# Altium integrated library Silicon Labs Isolation and Power.IntLib: 421 symbols (part 2 of 19)
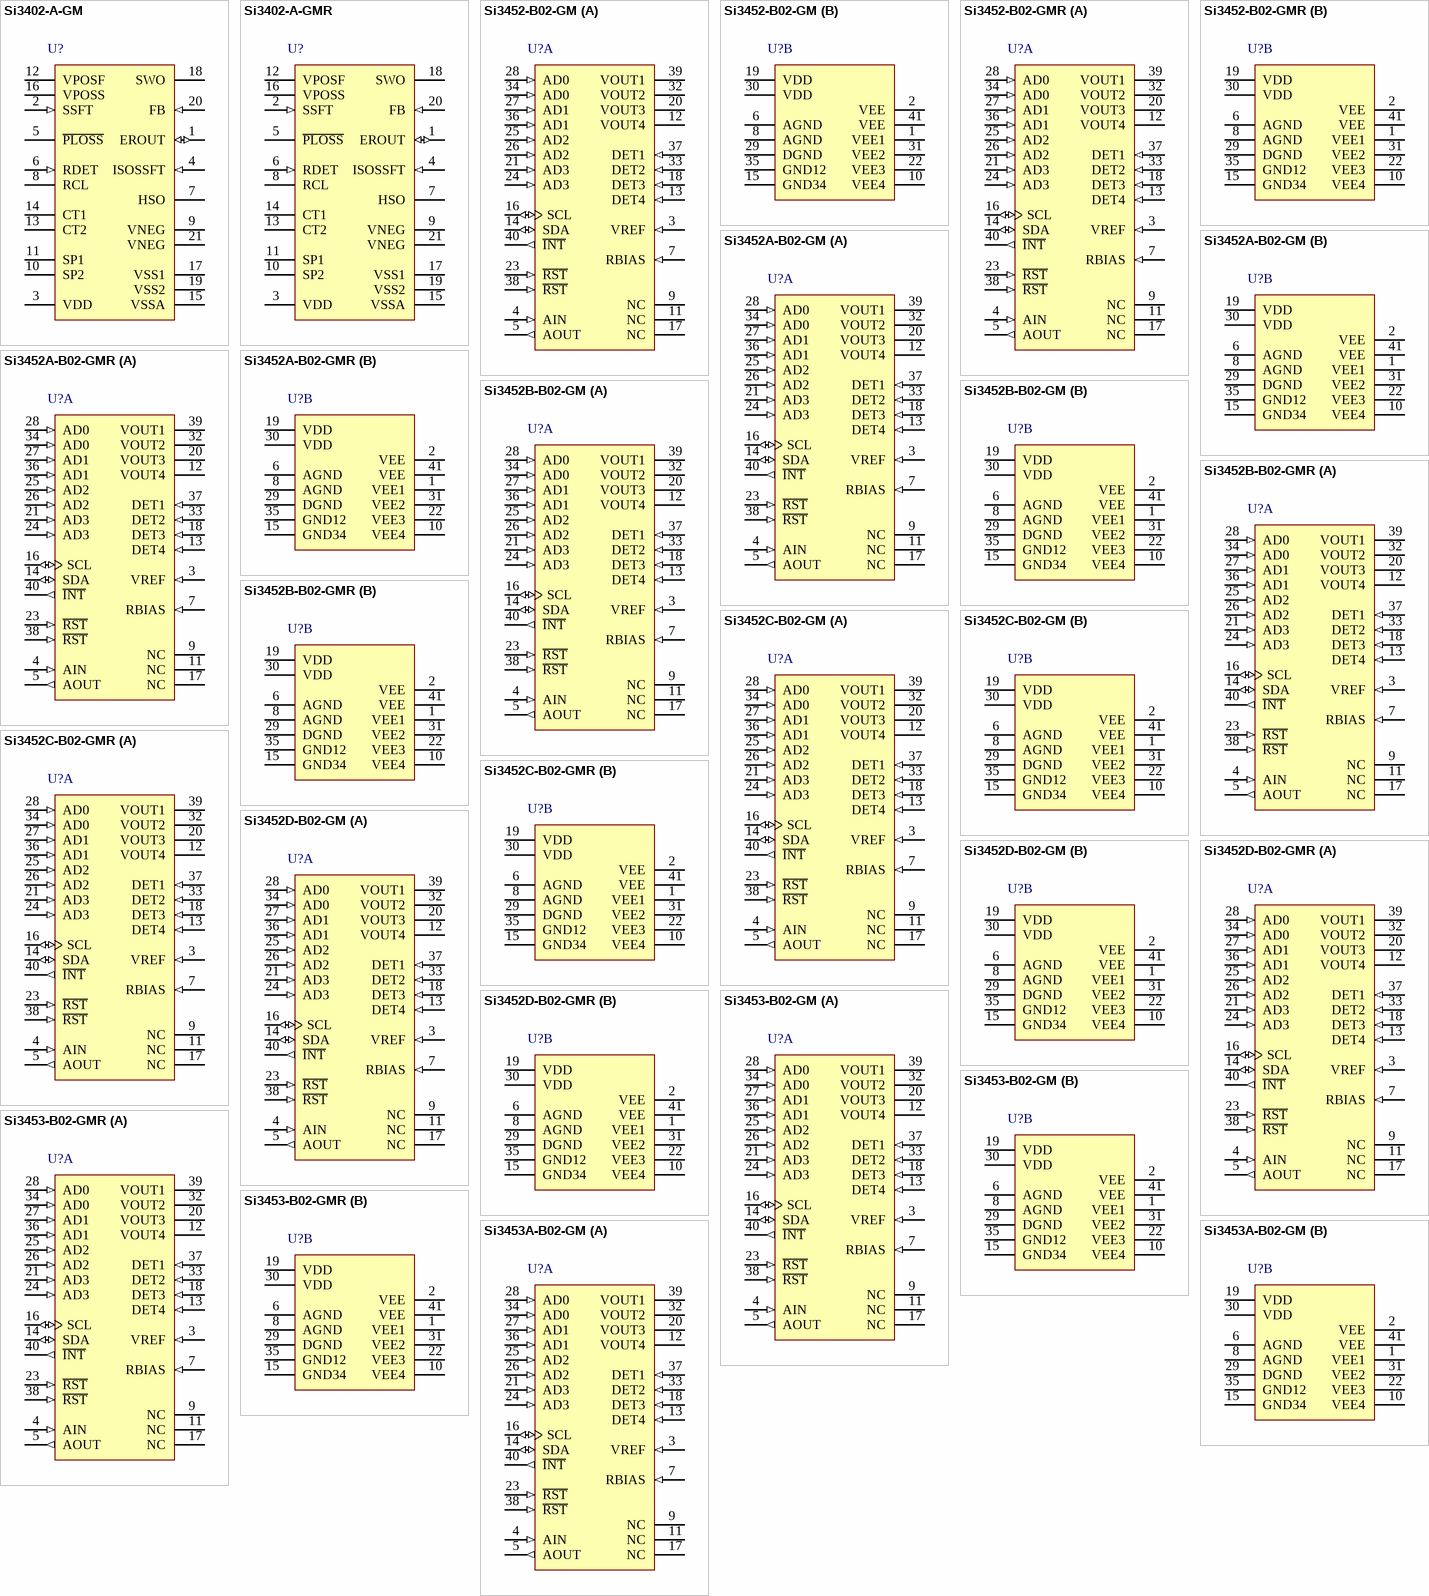
[diagram p15: symbols Si3402-A-GM to Si3453A-B02-GM]

## Si3452D-B02-GM
designator U?
Quad High-Voltage Port Controller for PoE and PoE+ PSEs, 40 W Maximum Output Power, -40 to 85 degC, 40-pin QFN; Manufacturer: Silicon Labs; PartNumber: Si3452D-B02-GM; Maximum Output Power: 40 W; Sub-Family: Power Over Ethernet Controllers; DatasheetVersion: Rev. 1.3; PackageVersion: Rev. 1.3, 01/2012; PackageReference: QFN-40; PackageDescription: 40-Pin Quad-Flat No-Leads Package, Body 6 x 6 mm, Pitch 0.5 mm; Supplier 1: Digi-Key; Supplier Part Number 1: SI3452D-B02-GM-ND; Supplier 2: Mouser; Supplier Part Number 2: 634-SI3452D-B02-GM; Mounting Technology: Surface Mount; Code_JEDEC: MO-220; Code_IPC: J-STD-020; ComponentLink1Description: Manufacturer URL; ComponentLink1URL: http://www.silabs.com/; ComponentLink2Description: Datasheet; ComponentLink2URL: http://www.silabs.com/Support Documents/TechnicalDocs/Si3452.pdf; ComponentLink3Description: Package Specification; ComponentLink3URL: http://www.silabs.com/Support%20Documents/TechnicalDocs/Si3452.pdf
footprint SLAB-QFN-40-4100x4100TP_A_N (QFN, 40-Leads, Body 6x6mm, Pitch 0.5mm, Thermal Pad 4.1X4.1mm, IPC Medium Density)
footprint SLAB-QFN-40-4100x4100TP_A_L (QFN, 40-Leads, Body 6x6mm, Pitch 0.5mm, Thermal Pad 4.1X4.1mm, IPC High Density)
footprint SLAB-QFN-40-4100x4100TP_A_M (QFN, 40-Leads, Body 6x6mm, Pitch 0.5mm, Thermal Pad 4.1X4.1mm, IPC Low Density)
part A pins: 3 VREF (in) "1.1 V nom. voltage reference from reference generator (for example, TLV431 or power management unit).", 4 AIN (in) "Measurement data converter input. Short to AOUT.", 5 AOUT (out) "Measurement multiplexer subsystem output. Short to AIN.", 7 RBIAS (in) "External 44.2 kohm (+/-1%) resistor to ground sets internal bias currents.", 9 NC "Do not connect (float).", 11 NC "Do not connect (float).", 12 VOUT4 (power) "Port 4 power FET switch output. When on, provides a low impedance path to VEE4.", 13 DET4 (in) "Connection for port 4 detection, classification, and transient surge protection. This pin is tied to VOUT4.", 14 SDA (io) "I2C data pin", 16 SCL (io) "I2C clock pin", 17 NC "Do not connect (float).", 18 DET3 (in) "Connection for port 3 detection and classification. See DET4 for detailed description.", 20 VOUT3 (power) "Port 3 power FET switch output. When on, provides a low impedance path to VEE3.", 21 AD3 (in) "Chip address bit 3 pin, read after reset. Address set with defined resistor dividers. Pin also used for internal communications. Short to AD3 pin 24.", 23 ~{RST} (in) "Active low digital reset. Short to R\S\T\ pin 38.", 24 AD3 (in) "Chip address bit 3 pin, read after reset. Address set with a 10 kohm pull-up or pull-down resistor. Also used for internal communications. Short to AD3 pin 21.", 25 AD2 (in) "Chip address bit 2 pin, read after reset. Address set with a 10 kohm pull-up or pull-down resistor. Also used for internal communications. Short to AD2 pin 26.", 26 AD2 (in) "Chip address bit 2 pin, read after reset. Address set with a 10 kohm pull-up or pull-down resistor. Also used for internal communications. Short to AD2 pin 25.", 27 AD1 (in) "Chip address bit 1 pin, read after reset. Address set with a 10 kohm pull-up or pull-down resistor. Also used for internal communications. Short to AD1 pin 36.", 28 AD0 (in) "Chip address bit 0 pin, read after reset. Address set with a 10 kohm pull-up or pull-down resistor. Also used for internal communications. Short to AD0 pin 34.", 32 VOUT2 (power) "Port 2 power FET switch output. When on, provides a low impedance path to VEE2.", 33 DET2 (in) "Connection for port 2 detection and classification. See DET4 for detailed description.", 34 AD0 (in) "Chip address bit 0 pin. See description for- and short to AD0 pin 28.", 36 AD1 (in) "Chip address bit 1 pin. See description for- and short to AD1 pin 27.", 37 DET1 (in) "Connection for port 1 detection and classification. See DET4 for detailed description.", 38 ~{RST} (in) "Active low digital reset. Short to R\S\T\ pin 23.", 39 VOUT1 (power) "Port 1 power FET switch output. When on, provides a low impedance path to VEE1.", 40 ~{INT} (out) "Active low interrupt output pin."
part B pins: 1 VEE1 (power) "Driver 1 VEE supply. Short to VEE, VEE2/3/4.", 2 VEE (power) "Global PoE (-48 V nom.) or PoE+ (-54 V nom.) supply. Short to VEE1/2/3/4.", 6 AGND (power) "Analog ground reference. Short to AGND pin 8, GND12/34, DGND.", 8 AGND (power) "Analog ground reference. Short to AGND pin 6, GND12/34, DGND.", 10 VEE4 (power) "Driver 4 VEE supply. Short to VEE, VEE1/2/3.", 15 GND34 (power) "Ground supply for protection clamps. Short to AGND, GND12, DGND.", 19 VDD (power) "+3.3 V (+/-10%) isolated supply. Short to VDD pin 30.", 22 VEE3 (power) "Driver 3 VEE supply. Short to VEE, VEE1/2/4.", 29 DGND (power) "Digital ground reference. Short to AGND, GND12/34", 30 VDD (power) "+3.3 V isolated supply. Short to VDD pin 19.", 31 VEE2 (power) "Driver 2 VEE supply. Short to VEE, VEE1/3/4.", 35 GND12 (power) "Ground supply for protection clamps. Short to AGND, GND34, DGND.", 41 VEE (power) "Connect the thermal pad to a plane which connects to Vee. For best results, use a 5 x 5 or larger via array for best thermal conductivity with 1 square inch or larger of plane area per device."

## Si3452D-B02-GMR
designator U?
Quad High-Voltage Port Controller for PoE and PoE+ PSEs, 40 W Maximum Output Power, -40 to 85 degC, 40-pin QFN, Tape and Reel; Manufacturer: Silicon Labs; PartNumber: Si3452D-B02-GMR; Maximum Output Power: 40 W; Sub-Family: Power Over Ethernet Controllers; DatasheetVersion: Rev. 1.3; PackageReference: QFN-40; PackageDescription: 40-Pin Quad-Flat No-Leads Package, Body 6 x 6 mm, Pitch 0.5 mm; Supplier 1: Digi-Key; Supplier Part Number 1: SI3452D-B02-GMR-ND; Supplier 2: Mouser; Supplier Part Number 2: 634-SI3452D-B02-GMR; Packing: Tape and Reel; Mounting Technology: Surface Mount; Code_JEDEC: MO-220; Code_IPC: J-STD-020; ComponentLink1Description: Manufacturer URL; ComponentLink1URL: http://www.silabs.com/; ComponentLink2Description: Datasheet; ComponentLink2URL: http://www.silabs.com/Support Documents/TechnicalDocs/Si3452.pdf; ComponentLink3Description: Package Specification; ComponentLink3URL: http://www.silabs.com/Support Documents/TechnicalDocs/C8051F50x-51x.pdf
footprint SLAB-QFN-40-4100x4100TP_N (QFN, 40-Leads, Body 6x6mm, Pitch 0.5mm, Thermal Pad 4.1x4.1mm, IPC Medium Density)
footprint SLAB-QFN-40-4100x4100TP_L (QFN, 40-Leads, Body 6x6mm, Pitch 0.5mm, Thermal Pad 4.1x4.1mm, IPC High Density)
footprint SLAB-QFN-40-4100x4100TP_M (QFN, 40-Leads, Body 6x6mm, Pitch 0.5mm, Thermal Pad 4.1x4.1mm, IPC Low Density)
part A pins: 3 VREF (in) "1.1 V nom. voltage reference from reference generator (for example, TLV431 or power management unit).", 4 AIN (in) "Measurement data converter input. Short to AOUT.", 5 AOUT (out) "Measurement multiplexer subsystem output. Short to AIN.", 7 RBIAS (in) "External 44.2 kohm (+/-1%) resistor to ground sets internal bias currents.", 9 NC "Do not connect (float).", 11 NC "Do not connect (float).", 12 VOUT4 (power) "Port 4 power FET switch output. When on, provides a low impedance path to VEE4.", 13 DET4 (in) "Connection for port 4 detection, classification, and transient surge protection. This pin is tied to VOUT4.", 14 SDA (io) "I2C data pin", 16 SCL (io) "I2C clock pin", 17 NC "Do not connect (float).", 18 DET3 (in) "Connection for port 3 detection and classification. See DET4 for detailed description.", 20 VOUT3 (power) "Port 3 power FET switch output. When on, provides a low impedance path to VEE3.", 21 AD3 (in) "Chip address bit 3 pin, read after reset. Address set with defined resistor dividers. Pin also used for internal communications. Short to AD3 pin 24.", 23 ~{RST} (in) "Active low digital reset. Short to R\S\T\ pin 38.", 24 AD3 (in) "Chip address bit 3 pin, read after reset. Address set with a 10 kohm pull-up or pull-down resistor. Also used for internal communications. Short to AD3 pin 21.", 25 AD2 (in) "Chip address bit 2 pin, read after reset. Address set with a 10 kohm pull-up or pull-down resistor. Also used for internal communications. Short to AD2 pin 26.", 26 AD2 (in) "Chip address bit 2 pin, read after reset. Address set with a 10 kohm pull-up or pull-down resistor. Also used for internal communications. Short to AD2 pin 25.", 27 AD1 (in) "Chip address bit 1 pin, read after reset. Address set with a 10 kohm pull-up or pull-down resistor. Also used for internal communications. Short to AD1 pin 36.", 28 AD0 (in) "Chip address bit 0 pin, read after reset. Address set with a 10 kohm pull-up or pull-down resistor. Also used for internal communications. Short to AD0 pin 34.", 32 VOUT2 (power) "Port 2 power FET switch output. When on, provides a low impedance path to VEE2.", 33 DET2 (in) "Connection for port 2 detection and classification. See DET4 for detailed description.", 34 AD0 (in) "Chip address bit 0 pin. See description for- and short to AD0 pin 28.", 36 AD1 (in) "Chip address bit 1 pin. See description for- and short to AD1 pin 27.", 37 DET1 (in) "Connection for port 1 detection and classification. See DET4 for detailed description.", 38 ~{RST} (in) "Active low digital reset. Short to R\S\T\ pin 23.", 39 VOUT1 (power) "Port 1 power FET switch output. When on, provides a low impedance path to VEE1.", 40 ~{INT} (out) "Active low interrupt output pin."
part B pins: 1 VEE1 (power) "Driver 1 VEE supply. Short to VEE, VEE2/3/4.", 2 VEE (power) "Global PoE (-48 V nom.) or PoE+ (-54 V nom.) supply. Short to VEE1/2/3/4.", 6 AGND (power) "Analog ground reference. Short to AGND pin 8, GND12/34, DGND.", 8 AGND (power) "Analog ground reference. Short to AGND pin 6, GND12/34, DGND.", 10 VEE4 (power) "Driver 4 VEE supply. Short to VEE, VEE1/2/3.", 15 GND34 (power) "Ground supply for protection clamps. Short to AGND, GND12, DGND.", 19 VDD (power) "+3.3 V (+/-10%) isolated supply. Short to VDD pin 30.", 22 VEE3 (power) "Driver 3 VEE supply. Short to VEE, VEE1/2/4.", 29 DGND (power) "Digital ground reference. Short to AGND, GND12/34", 30 VDD (power) "+3.3 V isolated supply. Short to VDD pin 19.", 31 VEE2 (power) "Driver 2 VEE supply. Short to VEE, VEE1/3/4.", 35 GND12 (power) "Ground supply for protection clamps. Short to AGND, GND34, DGND.", 41 VEE (power) "Connect the thermal pad to a plane which connects to Vee. For best results, use a 5 x 5 or larger via array for best thermal conductivity with 1 square inch or larger of plane area per device."

## Si3453-B02-GM
designator U?
Quad High-Voltage Port Controller for PoE and PoE+ PSEs, 40 W Maximum Output Power, -40 to 85 degC, 40-pin QFN; Manufacturer: Silicon Labs; PartNumber: Si3453-B02-GM; Maximum Output Power: 40 W; Sub-Family: Power Over Ethernet Controllers; DatasheetVersion: Rev. 1.3; PackageVersion: Rev. 1.3, 01/2012; PackageReference: QFN-40; PackageDescription: 40-Pin Quad-Flat No-Leads Package, Body 6 x 6 mm, Pitch 0.5 mm; Supplier 1: Digi-Key; Supplier Part Number 1: SI3453-B02-GM-ND; Supplier 2: Mouser; Supplier Part Number 2: 634-SI3453-B02-GM; Mounting Technology: Surface Mount; Code_JEDEC: MO-220; Code_IPC: J-STD-020; ComponentLink1Description: Manufacturer URL; ComponentLink1URL: http://www.silabs.com/; ComponentLink2Description: Datasheet; ComponentLink2URL: http://www.silabs.com/Support Documents/TechnicalDocs/Si3453.pdf; ComponentLink3Description: Package Specification; ComponentLink3URL: http://www.silabs.com/Support%20Documents/TechnicalDocs/Si3452.pdf
footprint SLAB-QFN-40-4100x4100TP_A_N (QFN, 40-Leads, Body 6x6mm, Pitch 0.5mm, Thermal Pad 4.1X4.1mm, IPC Medium Density)
footprint SLAB-QFN-40-4100x4100TP_A_L (QFN, 40-Leads, Body 6x6mm, Pitch 0.5mm, Thermal Pad 4.1X4.1mm, IPC High Density)
footprint SLAB-QFN-40-4100x4100TP_A_M (QFN, 40-Leads, Body 6x6mm, Pitch 0.5mm, Thermal Pad 4.1X4.1mm, IPC Low Density)
part A pins: 3 VREF (in) "1.1 V nom. voltage reference from reference generator (for example, TLV431 or power management unit).", 4 AIN (in) "Measurement data converter input. Short to AOUT.", 5 AOUT (out) "Measurement multiplexer subsystem output. Short to AIN.", 7 RBIAS (in) "External 44.2 kohm (+/-1%) resistor to ground sets internal bias currents.", 9 NC "Do not connect (float).", 11 NC "Do not connect (float).", 12 VOUT4 (power) "Port 4 power FET switch output. When on, provides a low impedance path to VEE4.", 13 DET4 (in) "Connection for port 4 detection, classification, and transient surge protection. This pin is tied to VOUT4.", 14 SDA (io) "I2C data pin", 16 SCL (io) "I2C clock pin", 17 NC "Do not connect (float).", 18 DET3 (in) "Connection for port 3 detection and classification. See DET4 for detailed description.", 20 VOUT3 (power) "Port 3 power FET switch output. When on, provides a low impedance path to VEE3.", 21 AD3 (in) "Chip address bit 3 pin, read after reset. Address set with defined resistor dividers. Pin also used for internal communications. Short to AD3 pin 24.", 23 ~{RST} (in) "Active low digital reset. Short to R\S\T\ pin 38.", 24 AD3 (in) "Chip address bit 3 pin, read after reset. Address set with a 10 kohm pull-up or pull-down resistor. Also used for internal communications. Short to AD3 pin 21.", 25 AD2 (in) "Chip address bit 2 pin, read after reset. Address set with a 10 kohm pull-up or pull-down resistor. Also used for internal communications. Short to AD2 pin 26.", 26 AD2 (in) "Chip address bit 2 pin, read after reset. Address set with a 10 kohm pull-up or pull-down resistor. Also used for internal communications. Short to AD2 pin 25.", 27 AD1 (in) "Chip address bit 1 pin, read after reset. Address set with a 10 kohm pull-up or pull-down resistor. Also used for internal communications. Short to AD1 pin 36.", 28 AD0 (in) "Chip address bit 0 pin, read after reset. Address set with a 10 kohm pull-up or pull-down resistor. Also used for internal communications. Short to AD0 pin 34.", 32 VOUT2 (power) "Port 2 power FET switch output. When on, provides a low impedance path to VEE2.", 33 DET2 (in) "Connection for port 2 detection and classification. See DET4 for detailed description.", 34 AD0 (in) "Chip address bit 0 pin. See description for- and short to AD0 pin 28.", 36 AD1 (in) "Chip address bit 1 pin. See description for- and short to AD1 pin 27.", 37 DET1 (in) "Connection for port 1 detection and classification. See DET4 for detailed description.", 38 ~{RST} (in) "Active low digital reset. Short to R\S\T\ pin 23.", 39 VOUT1 (power) "Port 1 power FET switch output. When on, provides a low impedance path to VEE1.", 40 ~{INT} (out) "Active low interrupt output pin."
part B pins: 1 VEE1 (power) "Driver 1 VEE supply. Short to VEE, VEE2/3/4.", 2 VEE (power) "Global PoE (-48 V nom.) or PoE+ (-54 V nom.) supply. Short to VEE1/2/3/4.", 6 AGND (power) "Analog ground reference. Short to AGND pin 8, GND12/34, DGND.", 8 AGND (power) "Analog ground reference. Short to AGND pin 6, GND12/34, DGND.", 10 VEE4 (power) "Driver 4 VEE supply. Short to VEE, VEE1/2/3.", 15 GND34 (power) "Ground supply for protection clamps. Short to AGND, GND12, DGND.", 19 VDD (power) "+3.3 V (+/-10%) isolated supply. Short to VDD pin 30.", 22 VEE3 (power) "Driver 3 VEE supply. Short to VEE, VEE1/2/4.", 29 DGND (power) "Digital ground reference. Short to AGND, GND12/34", 30 VDD (power) "+3.3 V isolated supply. Short to VDD pin 19.", 31 VEE2 (power) "Driver 2 VEE supply. Short to VEE, VEE1/3/4.", 35 GND12 (power) "Ground supply for protection clamps. Short to AGND, GND34, DGND.", 41 VEE (power) "Connect the thermal pad to a plane which connects to Vee. For best results, use a 5 x 5 or larger via array for best thermal conductivity with 1 square inch or larger of plane area per device."

## Si3453-B02-GMR
designator U?
Quad High-Voltage Port Controller for PoE and PoE+ PSEs, 40 W Maximum Output Power, -40 to 85 degC, 40-pin QFN, Tape and Reel; Manufacturer: Silicon Labs; PartNumber: Si3453-B02-GMR; Maximum Output Power: 40 W; Sub-Family: Power Over Ethernet Controllers; DatasheetVersion: Rev. 1.3; PackageVersion: Rev. 1.3, 01/2012; PackageReference: QFN-40; PackageDescription: 40-Pin Quad-Flat No-Leads Package, Body 6 x 6 mm, Pitch 0.5 mm; Supplier 1: Digi-Key; Supplier Part Number 1: SI3453-B02-GMR-ND; Supplier 2: Mouser; Supplier Part Number 2: 634-SI3453-B02-GMR; Packing: Tape and Reel; Mounting Technology: Surface Mount; Code_JEDEC: MO-220; Code_IPC: J-STD-020; ComponentLink1Description: Manufacturer URL; ComponentLink1URL: http://www.silabs.com/; ComponentLink2Description: Datasheet; ComponentLink2URL: http://www.silabs.com/Support Documents/TechnicalDocs/Si3453.pdf; ComponentLink3Description: Package Specification; ComponentLink3URL: http://www.silabs.com/Support%20Documents/TechnicalDocs/Si3452.pdf
footprint SLAB-QFN-40-4100x4100TP_A_N (QFN, 40-Leads, Body 6x6mm, Pitch 0.5mm, Thermal Pad 4.1X4.1mm, IPC Medium Density)
footprint SLAB-QFN-40-4100x4100TP_A_L (QFN, 40-Leads, Body 6x6mm, Pitch 0.5mm, Thermal Pad 4.1X4.1mm, IPC High Density)
footprint SLAB-QFN-40-4100x4100TP_A_M (QFN, 40-Leads, Body 6x6mm, Pitch 0.5mm, Thermal Pad 4.1X4.1mm, IPC Low Density)
part A pins: 3 VREF (in) "1.1 V nom. voltage reference from reference generator (for example, TLV431 or power management unit).", 4 AIN (in) "Measurement data converter input. Short to AOUT.", 5 AOUT (out) "Measurement multiplexer subsystem output. Short to AIN.", 7 RBIAS (in) "External 44.2 kohm (+/-1%) resistor to ground sets internal bias currents.", 9 NC "Do not connect (float).", 11 NC "Do not connect (float).", 12 VOUT4 (power) "Port 4 power FET switch output. When on, provides a low impedance path to VEE4.", 13 DET4 (in) "Connection for port 4 detection, classification, and transient surge protection. This pin is tied to VOUT4.", 14 SDA (io) "I2C data pin", 16 SCL (io) "I2C clock pin", 17 NC "Do not connect (float).", 18 DET3 (in) "Connection for port 3 detection and classification. See DET4 for detailed description.", 20 VOUT3 (power) "Port 3 power FET switch output. When on, provides a low impedance path to VEE3.", 21 AD3 (in) "Chip address bit 3 pin, read after reset. Address set with defined resistor dividers. Pin also used for internal communications. Short to AD3 pin 24.", 23 ~{RST} (in) "Active low digital reset. Short to R\S\T\ pin 38.", 24 AD3 (in) "Chip address bit 3 pin, read after reset. Address set with a 10 kohm pull-up or pull-down resistor. Also used for internal communications. Short to AD3 pin 21.", 25 AD2 (in) "Chip address bit 2 pin, read after reset. Address set with a 10 kohm pull-up or pull-down resistor. Also used for internal communications. Short to AD2 pin 26.", 26 AD2 (in) "Chip address bit 2 pin, read after reset. Address set with a 10 kohm pull-up or pull-down resistor. Also used for internal communications. Short to AD2 pin 25.", 27 AD1 (in) "Chip address bit 1 pin, read after reset. Address set with a 10 kohm pull-up or pull-down resistor. Also used for internal communications. Short to AD1 pin 36.", 28 AD0 (in) "Chip address bit 0 pin, read after reset. Address set with a 10 kohm pull-up or pull-down resistor. Also used for internal communications. Short to AD0 pin 34.", 32 VOUT2 (power) "Port 2 power FET switch output. When on, provides a low impedance path to VEE2.", 33 DET2 (in) "Connection for port 2 detection and classification. See DET4 for detailed description.", 34 AD0 (in) "Chip address bit 0 pin. See description for- and short to AD0 pin 28.", 36 AD1 (in) "Chip address bit 1 pin. See description for- and short to AD1 pin 27.", 37 DET1 (in) "Connection for port 1 detection and classification. See DET4 for detailed description.", 38 ~{RST} (in) "Active low digital reset. Short to R\S\T\ pin 23.", 39 VOUT1 (power) "Port 1 power FET switch output. When on, provides a low impedance path to VEE1.", 40 ~{INT} (out) "Active low interrupt output pin."
part B pins: 1 VEE1 (power) "Driver 1 VEE supply. Short to VEE, VEE2/3/4.", 2 VEE (power) "Global PoE (-48 V nom.) or PoE+ (-54 V nom.) supply. Short to VEE1/2/3/4.", 6 AGND (power) "Analog ground reference. Short to AGND pin 8, GND12/34, DGND.", 8 AGND (power) "Analog ground reference. Short to AGND pin 6, GND12/34, DGND.", 10 VEE4 (power) "Driver 4 VEE supply. Short to VEE, VEE1/2/3.", 15 GND34 (power) "Ground supply for protection clamps. Short to AGND, GND12, DGND.", 19 VDD (power) "+3.3 V (+/-10%) isolated supply. Short to VDD pin 30.", 22 VEE3 (power) "Driver 3 VEE supply. Short to VEE, VEE1/2/4.", 29 DGND (power) "Digital ground reference. Short to AGND, GND12/34", 30 VDD (power) "+3.3 V isolated supply. Short to VDD pin 19.", 31 VEE2 (power) "Driver 2 VEE supply. Short to VEE, VEE1/3/4.", 35 GND12 (power) "Ground supply for protection clamps. Short to AGND, GND34, DGND.", 41 VEE (power) "Connect the thermal pad to a plane which connects to Vee. For best results, use a 5 x 5 or larger via array for best thermal conductivity with 1 square inch or larger of plane area per device."

## Si3453A-B02-GM
designator U?
Quad High-Voltage Port Controller for PoE and PoE+ PSEs, 40 W Maximum Output Power, -40 to 85 degC, 40-pin QFN; Manufacturer: Silicon Labs; PartNumber: Si3453A-B02-GM; Maximum Output Power: 40 W; Sub-Family: Power Over Ethernet Controllers; DatasheetVersion: Rev. 1.3; PackageVersion: Rev. 1.3, 01/2012; PackageReference: QFN-40; PackageDescription: 40-Pin Quad-Flat No-Leads Package, Body 6 x 6 mm, Pitch 0.5 mm; Supplier 1: Digi-Key; Supplier Part Number 1: SI3453A-B02-GM-ND; Supplier 2: Mouser; Supplier Part Number 2: 634-SI3453A-B02-GM; Mounting Technology: Surface Mount; Code_JEDEC: MO-220; Code_IPC: J-STD-020; ComponentLink1Description: Manufacturer URL; ComponentLink1URL: http://www.silabs.com/; ComponentLink2Description: Datasheet; ComponentLink2URL: http://www.silabs.com/Support Documents/TechnicalDocs/Si3453.pdf; ComponentLink3Description: Package Specification; ComponentLink3URL: http://www.silabs.com/Support%20Documents/TechnicalDocs/Si3452.pdf
footprint SLAB-QFN-40-4100x4100TP_A_N (QFN, 40-Leads, Body 6x6mm, Pitch 0.5mm, Thermal Pad 4.1X4.1mm, IPC Medium Density)
footprint SLAB-QFN-40-4100x4100TP_A_L (QFN, 40-Leads, Body 6x6mm, Pitch 0.5mm, Thermal Pad 4.1X4.1mm, IPC High Density)
footprint SLAB-QFN-40-4100x4100TP_A_M (QFN, 40-Leads, Body 6x6mm, Pitch 0.5mm, Thermal Pad 4.1X4.1mm, IPC Low Density)
part A pins: 3 VREF (in) "1.1 V nom. voltage reference from reference generator (for example, TLV431 or power management unit).", 4 AIN (in) "Measurement data converter input. Short to AOUT.", 5 AOUT (out) "Measurement multiplexer subsystem output. Short to AIN.", 7 RBIAS (in) "External 44.2 kohm (+/-1%) resistor to ground sets internal bias currents.", 9 NC "Do not connect (float).", 11 NC "Do not connect (float).", 12 VOUT4 (power) "Port 4 power FET switch output. When on, provides a low impedance path to VEE4.", 13 DET4 (in) "Connection for port 4 detection, classification, and transient surge protection. This pin is tied to VOUT4.", 14 SDA (io) "I2C data pin", 16 SCL (io) "I2C clock pin", 17 NC "Do not connect (float).", 18 DET3 (in) "Connection for port 3 detection and classification. See DET4 for detailed description.", 20 VOUT3 (power) "Port 3 power FET switch output. When on, provides a low impedance path to VEE3.", 21 AD3 (in) "Chip address bit 3 pin, read after reset. Address set with defined resistor dividers. Pin also used for internal communications. Short to AD3 pin 24.", 23 ~{RST} (in) "Active low digital reset. Short to R\S\T\ pin 38.", 24 AD3 (in) "Chip address bit 3 pin, read after reset. Address set with a 10 kohm pull-up or pull-down resistor. Also used for internal communications. Short to AD3 pin 21.", 25 AD2 (in) "Chip address bit 2 pin, read after reset. Address set with a 10 kohm pull-up or pull-down resistor. Also used for internal communications. Short to AD2 pin 26.", 26 AD2 (in) "Chip address bit 2 pin, read after reset. Address set with a 10 kohm pull-up or pull-down resistor. Also used for internal communications. Short to AD2 pin 25.", 27 AD1 (in) "Chip address bit 1 pin, read after reset. Address set with a 10 kohm pull-up or pull-down resistor. Also used for internal communications. Short to AD1 pin 36.", 28 AD0 (in) "Chip address bit 0 pin, read after reset. Address set with a 10 kohm pull-up or pull-down resistor. Also used for internal communications. Short to AD0 pin 34.", 32 VOUT2 (power) "Port 2 power FET switch output. When on, provides a low impedance path to VEE2.", 33 DET2 (in) "Connection for port 2 detection and classification. See DET4 for detailed description.", 34 AD0 (in) "Chip address bit 0 pin. See description for- and short to AD0 pin 28.", 36 AD1 (in) "Chip address bit 1 pin. See description for- and short to AD1 pin 27.", 37 DET1 (in) "Connection for port 1 detection and classification. See DET4 for detailed description.", 38 ~{RST} (in) "Active low digital reset. Short to R\S\T\ pin 23.", 39 VOUT1 (power) "Port 1 power FET switch output. When on, provides a low impedance path to VEE1.", 40 ~{INT} (out) "Active low interrupt output pin."
part B pins: 1 VEE1 (power) "Driver 1 VEE supply. Short to VEE, VEE2/3/4.", 2 VEE (power) "Global PoE (-48 V nom.) or PoE+ (-54 V nom.) supply. Short to VEE1/2/3/4.", 6 AGND (power) "Analog ground reference. Short to AGND pin 8, GND12/34, DGND.", 8 AGND (power) "Analog ground reference. Short to AGND pin 6, GND12/34, DGND.", 10 VEE4 (power) "Driver 4 VEE supply. Short to VEE, VEE1/2/3.", 15 GND34 (power) "Ground supply for protection clamps. Short to AGND, GND12, DGND.", 19 VDD (power) "+3.3 V (+/-10%) isolated supply. Short to VDD pin 30.", 22 VEE3 (power) "Driver 3 VEE supply. Short to VEE, VEE1/2/4.", 29 DGND (power) "Digital ground reference. Short to AGND, GND12/34", 30 VDD (power) "+3.3 V isolated supply. Short to VDD pin 19.", 31 VEE2 (power) "Driver 2 VEE supply. Short to VEE, VEE1/3/4.", 35 GND12 (power) "Ground supply for protection clamps. Short to AGND, GND34, DGND.", 41 VEE (power) "Connect the thermal pad to a plane which connects to Vee. For best results, use a 5 x 5 or larger via array for best thermal conductivity with 1 square inch or larger of plane area per device."

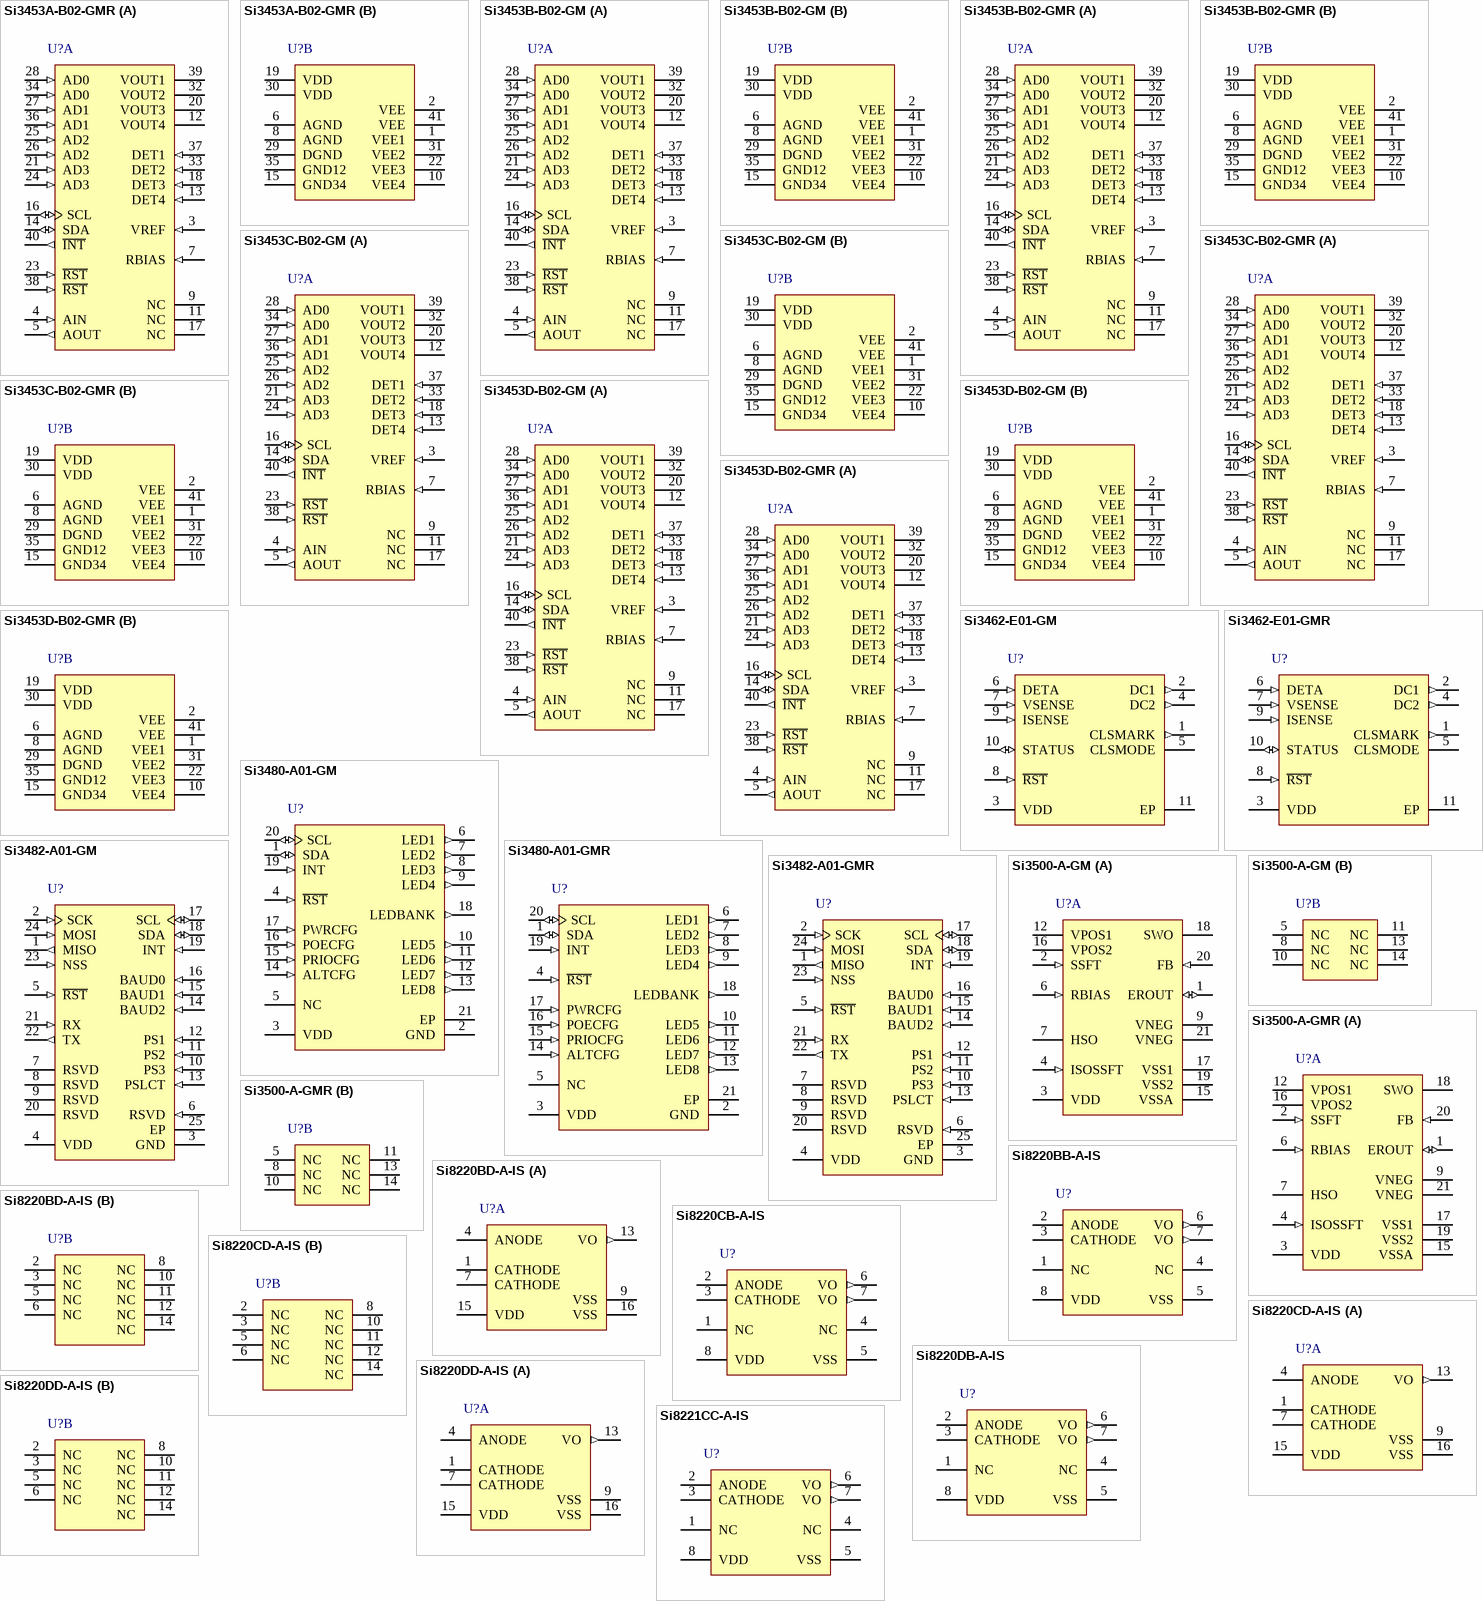
[diagram p1: symbols Si3453A-B02-GMR to Si8221CC-A-IS]

## Si3453A-B02-GMR
designator U?
Quad High-Voltage Port Controller for PoE and PoE+ PSEs, 40 W Maximum Output Power, -40 to 85 degC, 40-pin QFN, Tape and Reel; Manufacturer: Silicon Labs; PartNumber: Si3453A-B02-GMR; Maximum Output Power: 40 W; Sub-Family: Power Over Ethernet Controllers; DatasheetVersion: Rev. 1.3; PackageVersion: Rev. 1.3, 01/2012; PackageReference: QFN-40; PackageDescription: 40-Pin Quad-Flat No-Leads Package, Body 6 x 6 mm, Pitch 0.5 mm; Supplier 1: Digi-Key; Supplier Part Number 1: SI3453A-B02-GMR-ND; Supplier 2: Mouser; Supplier Part Number 2: 634-SI3453A-B02-GMR; Packing: Tape and Reel; Mounting Technology: Surface Mount; Code_JEDEC: MO-220; Code_IPC: J-STD-020; ComponentLink1Description: Manufacturer URL; ComponentLink1URL: http://www.silabs.com/; ComponentLink2Description: Datasheet; ComponentLink2URL: http://www.silabs.com/Support Documents/TechnicalDocs/Si3453.pdf; ComponentLink3Description: Package Specification; ComponentLink3URL: http://www.silabs.com/Support%20Documents/TechnicalDocs/Si3452.pdf
footprint SLAB-QFN-40-4100x4100TP_A_N (QFN, 40-Leads, Body 6x6mm, Pitch 0.5mm, Thermal Pad 4.1X4.1mm, IPC Medium Density)
footprint SLAB-QFN-40-4100x4100TP_A_L (QFN, 40-Leads, Body 6x6mm, Pitch 0.5mm, Thermal Pad 4.1X4.1mm, IPC High Density)
footprint SLAB-QFN-40-4100x4100TP_A_M (QFN, 40-Leads, Body 6x6mm, Pitch 0.5mm, Thermal Pad 4.1X4.1mm, IPC Low Density)
part A pins: 3 VREF (in) "1.1 V nom. voltage reference from reference generator (for example, TLV431 or power management unit).", 4 AIN (in) "Measurement data converter input. Short to AOUT.", 5 AOUT (out) "Measurement multiplexer subsystem output. Short to AIN.", 7 RBIAS (in) "External 44.2 kohm (+/-1%) resistor to ground sets internal bias currents.", 9 NC "Do not connect (float).", 11 NC "Do not connect (float).", 12 VOUT4 (power) "Port 4 power FET switch output. When on, provides a low impedance path to VEE4.", 13 DET4 (in) "Connection for port 4 detection, classification, and transient surge protection. This pin is tied to VOUT4.", 14 SDA (io) "I2C data pin", 16 SCL (io) "I2C clock pin", 17 NC "Do not connect (float).", 18 DET3 (in) "Connection for port 3 detection and classification. See DET4 for detailed description.", 20 VOUT3 (power) "Port 3 power FET switch output. When on, provides a low impedance path to VEE3.", 21 AD3 (in) "Chip address bit 3 pin, read after reset. Address set with defined resistor dividers. Pin also used for internal communications. Short to AD3 pin 24.", 23 ~{RST} (in) "Active low digital reset. Short to R\S\T\ pin 38.", 24 AD3 (in) "Chip address bit 3 pin, read after reset. Address set with a 10 kohm pull-up or pull-down resistor. Also used for internal communications. Short to AD3 pin 21.", 25 AD2 (in) "Chip address bit 2 pin, read after reset. Address set with a 10 kohm pull-up or pull-down resistor. Also used for internal communications. Short to AD2 pin 26.", 26 AD2 (in) "Chip address bit 2 pin, read after reset. Address set with a 10 kohm pull-up or pull-down resistor. Also used for internal communications. Short to AD2 pin 25.", 27 AD1 (in) "Chip address bit 1 pin, read after reset. Address set with a 10 kohm pull-up or pull-down resistor. Also used for internal communications. Short to AD1 pin 36.", 28 AD0 (in) "Chip address bit 0 pin, read after reset. Address set with a 10 kohm pull-up or pull-down resistor. Also used for internal communications. Short to AD0 pin 34.", 32 VOUT2 (power) "Port 2 power FET switch output. When on, provides a low impedance path to VEE2.", 33 DET2 (in) "Connection for port 2 detection and classification. See DET4 for detailed description.", 34 AD0 (in) "Chip address bit 0 pin. See description for- and short to AD0 pin 28.", 36 AD1 (in) "Chip address bit 1 pin. See description for- and short to AD1 pin 27.", 37 DET1 (in) "Connection for port 1 detection and classification. See DET4 for detailed description.", 38 ~{RST} (in) "Active low digital reset. Short to R\S\T\ pin 23.", 39 VOUT1 (power) "Port 1 power FET switch output. When on, provides a low impedance path to VEE1.", 40 ~{INT} (out) "Active low interrupt output pin."
part B pins: 1 VEE1 (power) "Driver 1 VEE supply. Short to VEE, VEE2/3/4.", 2 VEE (power) "Global PoE (-48 V nom.) or PoE+ (-54 V nom.) supply. Short to VEE1/2/3/4.", 6 AGND (power) "Analog ground reference. Short to AGND pin 8, GND12/34, DGND.", 8 AGND (power) "Analog ground reference. Short to AGND pin 6, GND12/34, DGND.", 10 VEE4 (power) "Driver 4 VEE supply. Short to VEE, VEE1/2/3.", 15 GND34 (power) "Ground supply for protection clamps. Short to AGND, GND12, DGND.", 19 VDD (power) "+3.3 V (+/-10%) isolated supply. Short to VDD pin 30.", 22 VEE3 (power) "Driver 3 VEE supply. Short to VEE, VEE1/2/4.", 29 DGND (power) "Digital ground reference. Short to AGND, GND12/34", 30 VDD (power) "+3.3 V isolated supply. Short to VDD pin 19.", 31 VEE2 (power) "Driver 2 VEE supply. Short to VEE, VEE1/3/4.", 35 GND12 (power) "Ground supply for protection clamps. Short to AGND, GND34, DGND.", 41 VEE (power) "Connect the thermal pad to a plane which connects to Vee. For best results, use a 5 x 5 or larger via array for best thermal conductivity with 1 square inch or larger of plane area per device."

## Si3453B-B02-GM
designator U?
Quad High-Voltage Port Controller for PoE and PoE+ PSEs, 40 W Maximum Output Power, -40 to 85 degC, 40-pin QFN; Manufacturer: Silicon Labs; PartNumber: Si3453B-B02-GM; Maximum Output Power: 40 W; Sub-Family: Power Over Ethernet Controllers; DatasheetVersion: Rev. 1.3; PackageVersion: Rev. 1.3, 01/2012; PackageReference: QFN-40; PackageDescription: 40-Pin Quad-Flat No-Leads Package, Body 6 x 6 mm, Pitch 0.5 mm; Supplier 1: Digi-Key; Supplier Part Number 1: SI3453B-B02-GM-ND; Supplier 2: Mouser; Supplier Part Number 2: 634-SI3453B-B02-GM; Mounting Technology: Surface Mount; Code_JEDEC: MO-220; Code_IPC: J-STD-020; ComponentLink1Description: Manufacturer URL; ComponentLink1URL: http://www.silabs.com/; ComponentLink2Description: Datasheet; ComponentLink2URL: http://www.silabs.com/Support Documents/TechnicalDocs/Si3453.pdf; ComponentLink3Description: Package Specification; ComponentLink3URL: http://www.silabs.com/Support%20Documents/TechnicalDocs/Si3452.pdf
footprint SLAB-QFN-40-4100x4100TP_A_N (QFN, 40-Leads, Body 6x6mm, Pitch 0.5mm, Thermal Pad 4.1X4.1mm, IPC Medium Density)
footprint SLAB-QFN-40-4100x4100TP_A_L (QFN, 40-Leads, Body 6x6mm, Pitch 0.5mm, Thermal Pad 4.1X4.1mm, IPC High Density)
footprint SLAB-QFN-40-4100x4100TP_A_M (QFN, 40-Leads, Body 6x6mm, Pitch 0.5mm, Thermal Pad 4.1X4.1mm, IPC Low Density)
part A pins: 3 VREF (in) "1.1 V nom. voltage reference from reference generator (for example, TLV431 or power management unit).", 4 AIN (in) "Measurement data converter input. Short to AOUT.", 5 AOUT (out) "Measurement multiplexer subsystem output. Short to AIN.", 7 RBIAS (in) "External 44.2 kohm (+/-1%) resistor to ground sets internal bias currents.", 9 NC "Do not connect (float).", 11 NC "Do not connect (float).", 12 VOUT4 (power) "Port 4 power FET switch output. When on, provides a low impedance path to VEE4.", 13 DET4 (in) "Connection for port 4 detection, classification, and transient surge protection. This pin is tied to VOUT4.", 14 SDA (io) "I2C data pin", 16 SCL (io) "I2C clock pin", 17 NC "Do not connect (float).", 18 DET3 (in) "Connection for port 3 detection and classification. See DET4 for detailed description.", 20 VOUT3 (power) "Port 3 power FET switch output. When on, provides a low impedance path to VEE3.", 21 AD3 (in) "Chip address bit 3 pin, read after reset. Address set with defined resistor dividers. Pin also used for internal communications. Short to AD3 pin 24.", 23 ~{RST} (in) "Active low digital reset. Short to R\S\T\ pin 38.", 24 AD3 (in) "Chip address bit 3 pin, read after reset. Address set with a 10 kohm pull-up or pull-down resistor. Also used for internal communications. Short to AD3 pin 21.", 25 AD2 (in) "Chip address bit 2 pin, read after reset. Address set with a 10 kohm pull-up or pull-down resistor. Also used for internal communications. Short to AD2 pin 26.", 26 AD2 (in) "Chip address bit 2 pin, read after reset. Address set with a 10 kohm pull-up or pull-down resistor. Also used for internal communications. Short to AD2 pin 25.", 27 AD1 (in) "Chip address bit 1 pin, read after reset. Address set with a 10 kohm pull-up or pull-down resistor. Also used for internal communications. Short to AD1 pin 36.", 28 AD0 (in) "Chip address bit 0 pin, read after reset. Address set with a 10 kohm pull-up or pull-down resistor. Also used for internal communications. Short to AD0 pin 34.", 32 VOUT2 (power) "Port 2 power FET switch output. When on, provides a low impedance path to VEE2.", 33 DET2 (in) "Connection for port 2 detection and classification. See DET4 for detailed description.", 34 AD0 (in) "Chip address bit 0 pin. See description for- and short to AD0 pin 28.", 36 AD1 (in) "Chip address bit 1 pin. See description for- and short to AD1 pin 27.", 37 DET1 (in) "Connection for port 1 detection and classification. See DET4 for detailed description.", 38 ~{RST} (in) "Active low digital reset. Short to R\S\T\ pin 23.", 39 VOUT1 (power) "Port 1 power FET switch output. When on, provides a low impedance path to VEE1.", 40 ~{INT} (out) "Active low interrupt output pin."
part B pins: 1 VEE1 (power) "Driver 1 VEE supply. Short to VEE, VEE2/3/4.", 2 VEE (power) "Global PoE (-48 V nom.) or PoE+ (-54 V nom.) supply. Short to VEE1/2/3/4.", 6 AGND (power) "Analog ground reference. Short to AGND pin 8, GND12/34, DGND.", 8 AGND (power) "Analog ground reference. Short to AGND pin 6, GND12/34, DGND.", 10 VEE4 (power) "Driver 4 VEE supply. Short to VEE, VEE1/2/3.", 15 GND34 (power) "Ground supply for protection clamps. Short to AGND, GND12, DGND.", 19 VDD (power) "+3.3 V (+/-10%) isolated supply. Short to VDD pin 30.", 22 VEE3 (power) "Driver 3 VEE supply. Short to VEE, VEE1/2/4.", 29 DGND (power) "Digital ground reference. Short to AGND, GND12/34", 30 VDD (power) "+3.3 V isolated supply. Short to VDD pin 19.", 31 VEE2 (power) "Driver 2 VEE supply. Short to VEE, VEE1/3/4.", 35 GND12 (power) "Ground supply for protection clamps. Short to AGND, GND34, DGND.", 41 VEE (power) "Connect the thermal pad to a plane which connects to Vee. For best results, use a 5 x 5 or larger via array for best thermal conductivity with 1 square inch or larger of plane area per device."

## Si3453B-B02-GMR
designator U?
Quad High-Voltage Port Controller for PoE and PoE+ PSEs, 40 W Maximum Output Power, -40 to 85 degC, 40-pin QFN, Tape and Reel; Manufacturer: Silicon Labs; PartNumber: Si3453B-B02-GMR; Maximum Output Power: 40 W; Sub-Family: Power Over Ethernet Controllers; DatasheetVersion: Rev. 1.3; PackageVersion: Rev. 1.3, 01/2012; PackageReference: QFN-40; PackageDescription: 40-Pin Quad-Flat No-Leads Package, Body 6 x 6 mm, Pitch 0.5 mm; Supplier 1: Digi-Key; Supplier Part Number 1: SI3453B-B02-GMR-ND; Supplier 2: Mouser; Supplier Part Number 2: 634-SI3453B-B02-GMR; Packing: Tape and Reel; Mounting Technology: Surface Mount; Code_JEDEC: MO-220; Code_IPC: J-STD-020; ComponentLink1Description: Manufacturer URL; ComponentLink1URL: http://www.silabs.com/; ComponentLink2Description: Datasheet; ComponentLink2URL: http://www.silabs.com/Support Documents/TechnicalDocs/Si3453.pdf; ComponentLink3Description: Package Specification; ComponentLink3URL: http://www.silabs.com/Support%20Documents/TechnicalDocs/Si3452.pdf
footprint SLAB-QFN-40-4100x4100TP_A_N (QFN, 40-Leads, Body 6x6mm, Pitch 0.5mm, Thermal Pad 4.1X4.1mm, IPC Medium Density)
footprint SLAB-QFN-40-4100x4100TP_A_L (QFN, 40-Leads, Body 6x6mm, Pitch 0.5mm, Thermal Pad 4.1X4.1mm, IPC High Density)
footprint SLAB-QFN-40-4100x4100TP_A_M (QFN, 40-Leads, Body 6x6mm, Pitch 0.5mm, Thermal Pad 4.1X4.1mm, IPC Low Density)
part A pins: 3 VREF (in) "1.1 V nom. voltage reference from reference generator (for example, TLV431 or power management unit).", 4 AIN (in) "Measurement data converter input. Short to AOUT.", 5 AOUT (out) "Measurement multiplexer subsystem output. Short to AIN.", 7 RBIAS (in) "External 44.2 kohm (+/-1%) resistor to ground sets internal bias currents.", 9 NC "Do not connect (float).", 11 NC "Do not connect (float).", 12 VOUT4 (power) "Port 4 power FET switch output. When on, provides a low impedance path to VEE4.", 13 DET4 (in) "Connection for port 4 detection, classification, and transient surge protection. This pin is tied to VOUT4.", 14 SDA (io) "I2C data pin", 16 SCL (io) "I2C clock pin", 17 NC "Do not connect (float).", 18 DET3 (in) "Connection for port 3 detection and classification. See DET4 for detailed description.", 20 VOUT3 (power) "Port 3 power FET switch output. When on, provides a low impedance path to VEE3.", 21 AD3 (in) "Chip address bit 3 pin, read after reset. Address set with defined resistor dividers. Pin also used for internal communications. Short to AD3 pin 24.", 23 ~{RST} (in) "Active low digital reset. Short to R\S\T\ pin 38.", 24 AD3 (in) "Chip address bit 3 pin, read after reset. Address set with a 10 kohm pull-up or pull-down resistor. Also used for internal communications. Short to AD3 pin 21.", 25 AD2 (in) "Chip address bit 2 pin, read after reset. Address set with a 10 kohm pull-up or pull-down resistor. Also used for internal communications. Short to AD2 pin 26.", 26 AD2 (in) "Chip address bit 2 pin, read after reset. Address set with a 10 kohm pull-up or pull-down resistor. Also used for internal communications. Short to AD2 pin 25.", 27 AD1 (in) "Chip address bit 1 pin, read after reset. Address set with a 10 kohm pull-up or pull-down resistor. Also used for internal communications. Short to AD1 pin 36.", 28 AD0 (in) "Chip address bit 0 pin, read after reset. Address set with a 10 kohm pull-up or pull-down resistor. Also used for internal communications. Short to AD0 pin 34.", 32 VOUT2 (power) "Port 2 power FET switch output. When on, provides a low impedance path to VEE2.", 33 DET2 (in) "Connection for port 2 detection and classification. See DET4 for detailed description.", 34 AD0 (in) "Chip address bit 0 pin. See description for- and short to AD0 pin 28.", 36 AD1 (in) "Chip address bit 1 pin. See description for- and short to AD1 pin 27.", 37 DET1 (in) "Connection for port 1 detection and classification. See DET4 for detailed description.", 38 ~{RST} (in) "Active low digital reset. Short to R\S\T\ pin 23.", 39 VOUT1 (power) "Port 1 power FET switch output. When on, provides a low impedance path to VEE1.", 40 ~{INT} (out) "Active low interrupt output pin."
part B pins: 1 VEE1 (power) "Driver 1 VEE supply. Short to VEE, VEE2/3/4.", 2 VEE (power) "Global PoE (-48 V nom.) or PoE+ (-54 V nom.) supply. Short to VEE1/2/3/4.", 6 AGND (power) "Analog ground reference. Short to AGND pin 8, GND12/34, DGND.", 8 AGND (power) "Analog ground reference. Short to AGND pin 6, GND12/34, DGND.", 10 VEE4 (power) "Driver 4 VEE supply. Short to VEE, VEE1/2/3.", 15 GND34 (power) "Ground supply for protection clamps. Short to AGND, GND12, DGND.", 19 VDD (power) "+3.3 V (+/-10%) isolated supply. Short to VDD pin 30.", 22 VEE3 (power) "Driver 3 VEE supply. Short to VEE, VEE1/2/4.", 29 DGND (power) "Digital ground reference. Short to AGND, GND12/34", 30 VDD (power) "+3.3 V isolated supply. Short to VDD pin 19.", 31 VEE2 (power) "Driver 2 VEE supply. Short to VEE, VEE1/3/4.", 35 GND12 (power) "Ground supply for protection clamps. Short to AGND, GND34, DGND.", 41 VEE (power) "Connect the thermal pad to a plane which connects to Vee. For best results, use a 5 x 5 or larger via array for best thermal conductivity with 1 square inch or larger of plane area per device."

## Si3453C-B02-GM
designator U?
Quad High-Voltage Port Controller for PoE and PoE+ PSEs, 40 W Maximum Output Power, -40 to 85 degC, 40-pin QFN; Manufacturer: Silicon Labs; PartNumber: Si3453C-B02-GM; Maximum Output Power: 40 W; Sub-Family: Power Over Ethernet Controllers; DatasheetVersion: Rev. 1.3; PackageVersion: Rev. 1.3, 01/2012; PackageReference: QFN-40; PackageDescription: 40-Pin Quad-Flat No-Leads Package, Body 6 x 6 mm, Pitch 0.5 mm; Supplier 1: Digi-Key; Supplier Part Number 1: SI3453C-B02-GM-ND; Supplier 2: Mouser; Supplier Part Number 2: 634-SI3453C-B02-GM; Mounting Technology: Surface Mount; Code_JEDEC: MO-220; Code_IPC: J-STD-020; ComponentLink1Description: Manufacturer URL; ComponentLink1URL: http://www.silabs.com/; ComponentLink2Description: Datasheet; ComponentLink2URL: http://www.silabs.com/Support Documents/TechnicalDocs/Si3453.pdf; ComponentLink3Description: Package Specification; ComponentLink3URL: http://www.silabs.com/Support%20Documents/TechnicalDocs/Si3452.pdf
footprint SLAB-QFN-40-4100x4100TP_A_N (QFN, 40-Leads, Body 6x6mm, Pitch 0.5mm, Thermal Pad 4.1X4.1mm, IPC Medium Density)
footprint SLAB-QFN-40-4100x4100TP_A_L (QFN, 40-Leads, Body 6x6mm, Pitch 0.5mm, Thermal Pad 4.1X4.1mm, IPC High Density)
footprint SLAB-QFN-40-4100x4100TP_A_M (QFN, 40-Leads, Body 6x6mm, Pitch 0.5mm, Thermal Pad 4.1X4.1mm, IPC Low Density)
part A pins: 3 VREF (in) "1.1 V nom. voltage reference from reference generator (for example, TLV431 or power management unit).", 4 AIN (in) "Measurement data converter input. Short to AOUT.", 5 AOUT (out) "Measurement multiplexer subsystem output. Short to AIN.", 7 RBIAS (in) "External 44.2 kohm (+/-1%) resistor to ground sets internal bias currents.", 9 NC "Do not connect (float).", 11 NC "Do not connect (float).", 12 VOUT4 (power) "Port 4 power FET switch output. When on, provides a low impedance path to VEE4.", 13 DET4 (in) "Connection for port 4 detection, classification, and transient surge protection. This pin is tied to VOUT4.", 14 SDA (io) "I2C data pin", 16 SCL (io) "I2C clock pin", 17 NC "Do not connect (float).", 18 DET3 (in) "Connection for port 3 detection and classification. See DET4 for detailed description.", 20 VOUT3 (power) "Port 3 power FET switch output. When on, provides a low impedance path to VEE3.", 21 AD3 (in) "Chip address bit 3 pin, read after reset. Address set with defined resistor dividers. Pin also used for internal communications. Short to AD3 pin 24.", 23 ~{RST} (in) "Active low digital reset. Short to R\S\T\ pin 38.", 24 AD3 (in) "Chip address bit 3 pin, read after reset. Address set with a 10 kohm pull-up or pull-down resistor. Also used for internal communications. Short to AD3 pin 21.", 25 AD2 (in) "Chip address bit 2 pin, read after reset. Address set with a 10 kohm pull-up or pull-down resistor. Also used for internal communications. Short to AD2 pin 26.", 26 AD2 (in) "Chip address bit 2 pin, read after reset. Address set with a 10 kohm pull-up or pull-down resistor. Also used for internal communications. Short to AD2 pin 25.", 27 AD1 (in) "Chip address bit 1 pin, read after reset. Address set with a 10 kohm pull-up or pull-down resistor. Also used for internal communications. Short to AD1 pin 36.", 28 AD0 (in) "Chip address bit 0 pin, read after reset. Address set with a 10 kohm pull-up or pull-down resistor. Also used for internal communications. Short to AD0 pin 34.", 32 VOUT2 (power) "Port 2 power FET switch output. When on, provides a low impedance path to VEE2.", 33 DET2 (in) "Connection for port 2 detection and classification. See DET4 for detailed description.", 34 AD0 (in) "Chip address bit 0 pin. See description for- and short to AD0 pin 28.", 36 AD1 (in) "Chip address bit 1 pin. See description for- and short to AD1 pin 27.", 37 DET1 (in) "Connection for port 1 detection and classification. See DET4 for detailed description.", 38 ~{RST} (in) "Active low digital reset. Short to R\S\T\ pin 23.", 39 VOUT1 (power) "Port 1 power FET switch output. When on, provides a low impedance path to VEE1.", 40 ~{INT} (out) "Active low interrupt output pin."
part B pins: 1 VEE1 (power) "Driver 1 VEE supply. Short to VEE, VEE2/3/4.", 2 VEE (power) "Global PoE (-48 V nom.) or PoE+ (-54 V nom.) supply. Short to VEE1/2/3/4.", 6 AGND (power) "Analog ground reference. Short to AGND pin 8, GND12/34, DGND.", 8 AGND (power) "Analog ground reference. Short to AGND pin 6, GND12/34, DGND.", 10 VEE4 (power) "Driver 4 VEE supply. Short to VEE, VEE1/2/3.", 15 GND34 (power) "Ground supply for protection clamps. Short to AGND, GND12, DGND.", 19 VDD (power) "+3.3 V (+/-10%) isolated supply. Short to VDD pin 30.", 22 VEE3 (power) "Driver 3 VEE supply. Short to VEE, VEE1/2/4.", 29 DGND (power) "Digital ground reference. Short to AGND, GND12/34", 30 VDD (power) "+3.3 V isolated supply. Short to VDD pin 19.", 31 VEE2 (power) "Driver 2 VEE supply. Short to VEE, VEE1/3/4.", 35 GND12 (power) "Ground supply for protection clamps. Short to AGND, GND34, DGND.", 41 VEE (power) "Connect the thermal pad to a plane which connects to Vee. For best results, use a 5 x 5 or larger via array for best thermal conductivity with 1 square inch or larger of plane area per device."